# EAGLE library part AD8644 (library analog-devices)
Single and Quad 18 V Operational Amplifiers Source: http://www.analog.com/static/imported-files/data_sheets/AD8614_8644.pdf
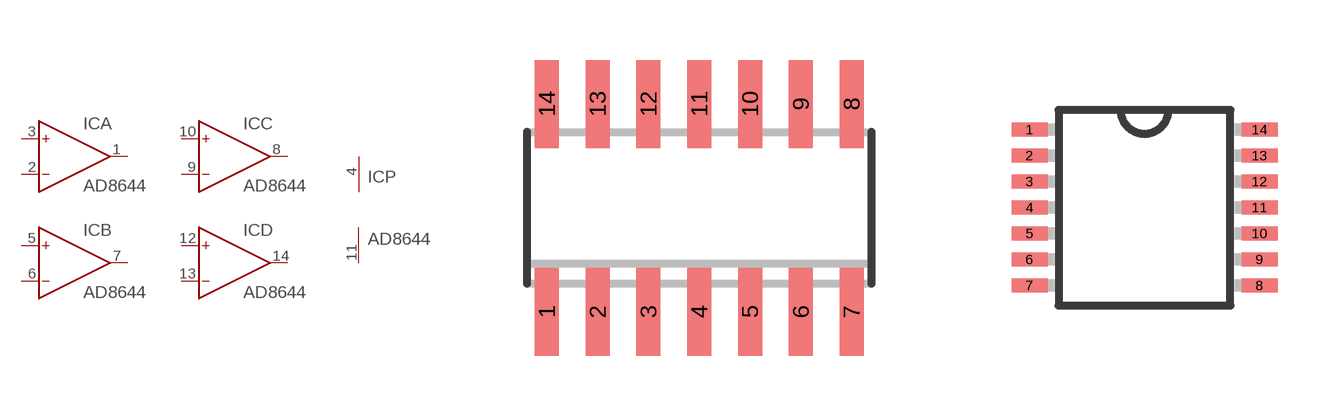
[diagram p123: symbol with the pads of SO14; footprints SO14, TSSOP14]

Designator prefix IC; gates A=OP B=OP C=OP D=OP P=PWR+-

## AD8644R (MF: ALTERA CORPORATION; MPN: AD8644ARZ; OC_FARNELL: 1438873; OC_NEWARK: 59K7037)  [SO14]
1  A:OUT  out
2  A:IN-  in
3  A:IN+  in
4  P:V+  pwr
5  B:IN+  in
6  B:IN-  in
7  B:OUT  out
8  C:OUT  out
9  C:IN-  in
10  C:IN+  in
11  P:V-  pwr
12  D:IN+  in
13  D:IN-  in
14  D:OUT  out

## AD8644RU (MF: ALTERA CORPORATION; MPN: AD8644ARUZ; OC_FARNELL: 1438873; OC_NEWARK: 59K7036)  [TSSOP14]
Pads as for SO14

## Footprint SO14 (pad centres in mm)
14-Lead Narrow-Body SOIC (SO-14) Source: http://www.analog.com/static/imported-files/data_sheets/SSM2166.pdf
smd 0.6 x 2.2: 1 -3.81,-2.6; 2 -2.54,-2.6; 3 -1.27,-2.6; 4 0,-2.6; 5 1.27,-2.6; 6 2.54,-2.6; 7 3.81,-2.6; 8 3.81,2.6; 9 2.54,2.6; 10 1.27,2.6; 11 0,2.6; 12 -1.27,2.6; 13 -2.54,2.6; 14 -3.81,2.6

## Footprint TSSOP14 (pad centres in mm)
14-Lead Thin Shrink Small Outline Package [TSSOP] Source: Analog Devices .. 780914713ADD8704_0.pdf
smd 0.9 x 0.35: 1 -2.875,1.95; 2 -2.875,1.3; 3 -2.875,0.65; 4 -2.875,0; 5 -2.875,-0.65; 6 -2.875,-1.3; 7 -2.875,-1.95; 8 2.875,-1.95; 9 2.875,-1.3; 10 2.875,-0.65; 11 2.875,0; 12 2.875,0.65; 13 2.875,1.3; 14 2.875,1.95